# Altium footprint library Misc PTH.PcbLib: 31 footprints (part 2 of 2)
Each footprint in its own frame and in the unit in brackets; x right, y up, seen from the top. Pads: shape width x height; smd on the part's side, far side on the other; paste and mask are expansions set on the pad; w line width, h text height; cw(c..) or ccw(c..) is an arc to the next point about the centre after c.
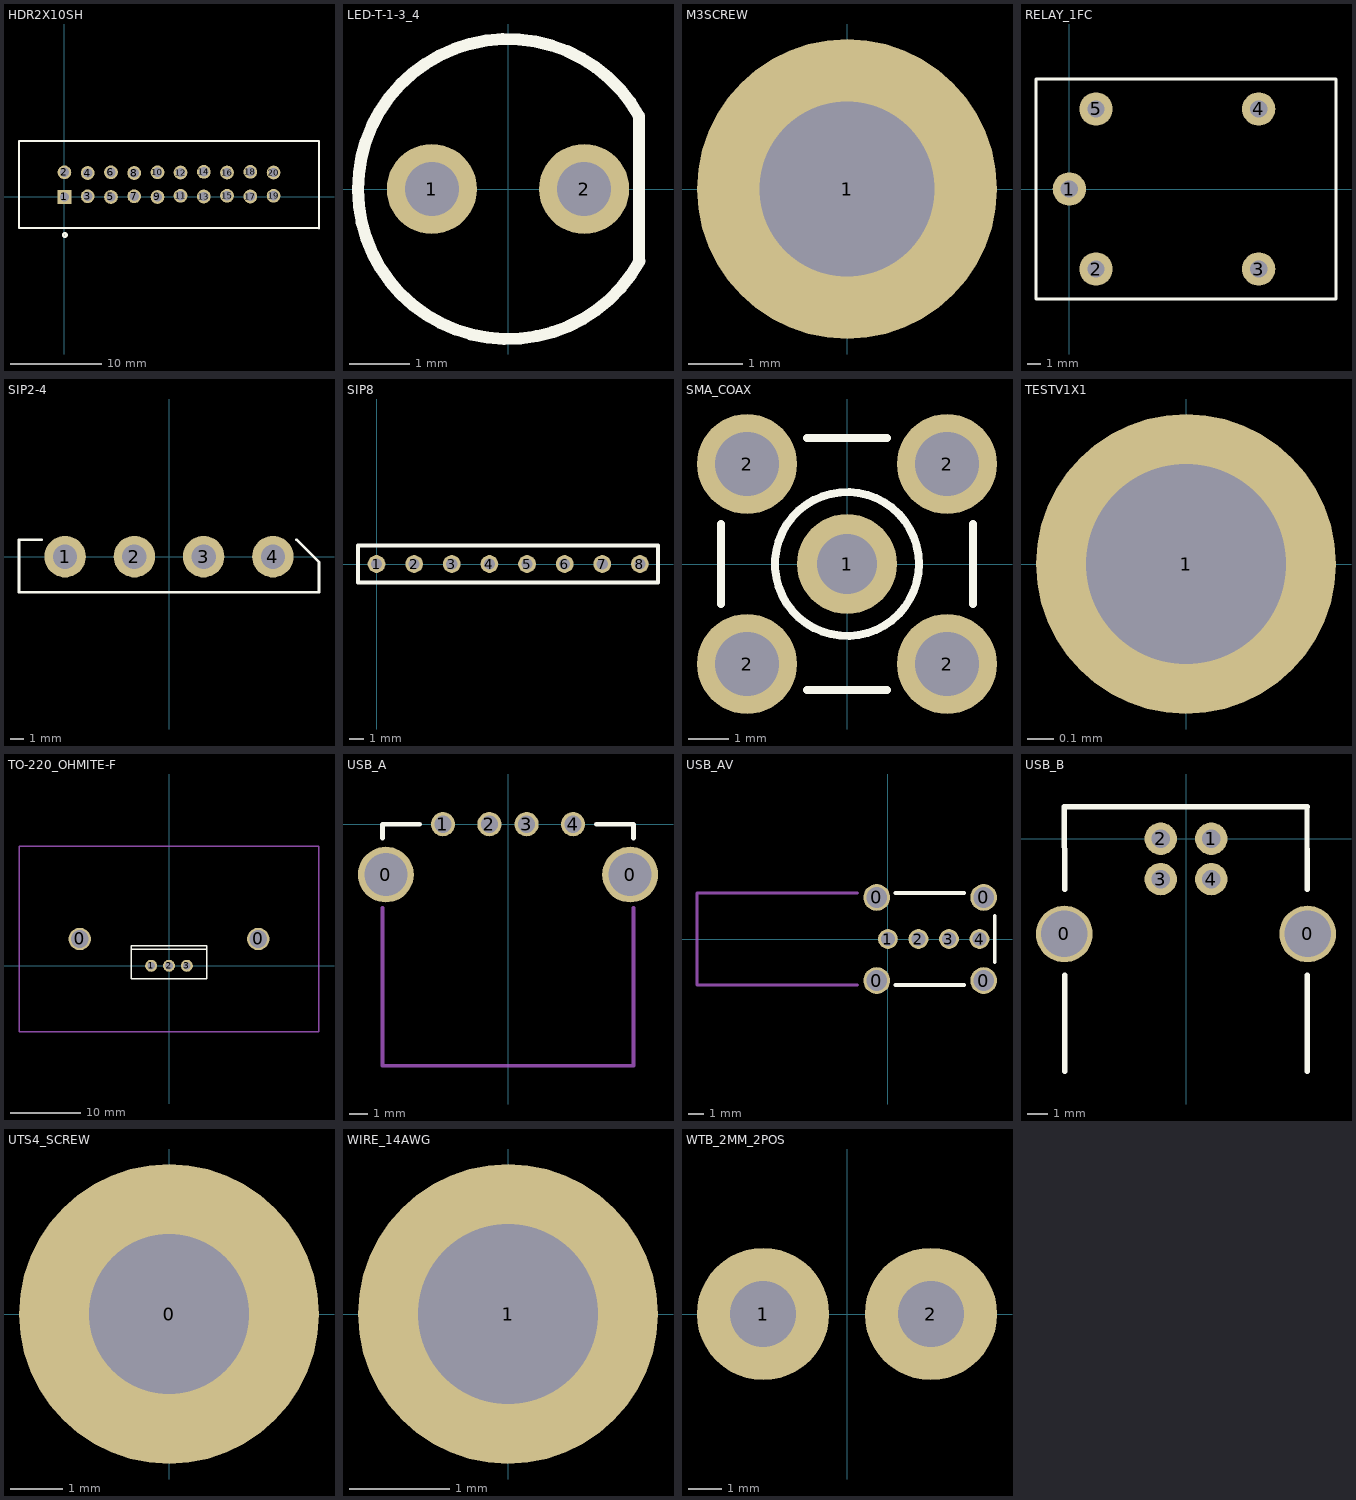
[diagram p1: the footprints below, top view; thin cyan lines are the x and y axes]

## HDR2X10SH [mm] "Connector; Header; 10x2 Position"
pads (20):
  rect 1.5x1.5 hole 1.016: 1(0,0)
  round 1.5 hole 1.016: 2(0,2.694) 3(2.54,0.077) 4(2.54,2.617) 5(5.08,0) 6(5.08,2.694) 7(7.62,0.077) 8(7.62,2.617) 9(10.16,0) 10(10.16,2.694) 11(12.68,0.13) 12(12.68,2.67) 13(15.22,0.053) 14(15.22,2.747) 15(17.76,0.13) 16(17.76,2.67) 17(20.3,0.053) 18(20.3,2.747) 19(22.84,0.13) 20(22.84,2.67)
Top Overlay:
  circle w0.254: c0.04,-4.153 r0.2
  lines w0.2: 27.8,-3.427 27.8,6.073 ; 27.8,-3.403 -4.96,-3.403 -4.96,6.097 27.8,6.097

## LED-T-1-3_4 [mm] "LED 5mm T-1 3/4"
height 8.6
pads (2):
  round 1.5 hole 0.9 mask+0: 1(-1.27,0) 2(1.27,0)
Top Overlay:
  lines w0.2: 2.185,-1.188 2.185,1.214 ccw(c0,0) 2.195,-1.197
3D body: height 8.6, standoff -1, extent -2.95,-2.949 2.5,2.949

## M3SCREW [mm]
pads (1):
  round 5.5 hole 3.2: 1(0,0)

## RELAY_1FC [mm] "Relay SPDT 1 Form C"
pads (5):
  round 2.5 hole 1.3: 1(0,0) 2(2,-6) 3(14.2,-6) 4(14.2,6) 5(2,6)
Top Overlay:
  lines w0.254: -2.5,-8.25 -2.5,8.25 20,8.25 20,-8.25 -2.5,-8.25
3D body: height 18.5, standoff 0, extent -2.5,-8.25 20,8.25

## SIP2-4 [mil]
pads (4):
  round 120 hole 70: 1(-300,0) 2(-100,0) 3(100,0) 4(300,0)
Top Overlay:
  lines w7.87: -368.11,49.21 -433.07,49.21 -433.07,-102.36 433.07,-102.36 433.07,-15.75 368.11,49.21
3D body: height 807.09, standoff 78.74, extent -433.07,-102.36 433.07,49.21

## SIP8 [mm] "Single in-line package"
height 5
pads (8):
  round 1.2 hole 0.75: 1(0,0) 2(2.54,0) 3(5.08,0) 4(7.62,0) 5(10.16,0) 6(12.7,0) 7(15.24,0) 8(17.78,0)
Top Overlay:
  lines w0.254: -1.25,-1.25 19,-1.25 19,1.25 -1.25,1.25 -1.25,-1.25
3D body: height 5, standoff 0, extent -1.25,-1.25 19,1.25

## SMA_COAX [mm] "Connector; SMA Straight"
height 9.5
pads (5):
  round 2.5 hole 1.5: 1(0,0)
  round 2.5 hole 1.6: 2(-2.5,-2.5) 2(-2.5,2.5) 2(2.5,-2.5) 2(2.5,2.5)
Top Overlay:
  circle w0.2: c0,0 r1.8
  lines w0.2: -3.15,-1 -3.15,1 ; -1,-3.15 1,-3.15 ; -1,3.15 1,3.15 ; 3.15,-1 3.15,1
Mechanical 1:
  circle w0.025: c0,0 r0.2
  circle w0.025: c0,0 r1.05
  circle w0.025: c0,0 r1.8

## TESTV1X1 [mil]
pads (1):
  round 45 hole 30 paste-200: 1(0,0)
Courtyard:
  lines w5: -10,0 10,0 ; 0,-10 0,10

## TO-220_OHMITE-F [mm] "TO, Thru-Hole, Vertical, Heatsink Mounted; 3 In-Line Leads; Pitch 2.54 mm"
height 0.635
pads (5):
  round 3.175 hole 2.54: 0(-12.7,3.81) 0(12.7,3.81)
  round 1.7 hole 1.1: 1(-2.54,0) 2(0,0) 3(2.54,0)
Top Overlay:
  lines w0.2: -5.35,2.35 5.35,2.35 ; -5.35,-1.85 5.35,-1.85 5.35,2.85 -5.35,2.85 -5.35,-1.85
Courtyard:
  lines w0.2: -21.336,-9.398 21.336,-9.398 21.336,17.018 -21.336,17.018 -21.336,-9.398
3D body: height 63.5, standoff 0, extent -20.828,-8.89 20.828,16.51

## USB_A [mm]
pads (6):
  round 3 hole 2.3: 0(-6.57,-2.71) 0(6.57,-2.71)
  round 1.3 hole 0.92: 1(-3.5,0) 2(-1,0) 3(1,0) 4(3.5,0)
Top Overlay:
  lines w0.254: -6.75,-0.75 -6.75,0 -4.75,0 ; 4.75,0 6.75,0 6.75,-0.75
Assembly:
  lines w0.2: -6.75,-4.5 -6.75,-13 6.75,-13 6.75,-4.5
3D body: height 7.74, standoff -2.74, extent -7.25,-13 7.25,1

## USB_AV [mm]
pads (8):
  round 1.75 hole 1.35: 0(-0.73,-2.72) 0(-0.73,2.72) 0(6.27,-2.72) 0(6.27,2.72)
  round 1.3 hole 0.92: 1(0,0) 2(2,0) 3(4,0) 4(6,0)
Top Overlay:
  lines w0.254: 0.5,-3 5,-3 ; 0.5,3 5,3 ; 7,-1.5 7,1.5
Mechanical 1:
  lines w0.2: -2,-3 -12.5,-3 -12.5,3 -2,3
3D body: height 14.65, standoff -3.16, extent -12.525,-3.545 7.175,3.575

## USB_B [mm]
pads (6):
  round 2.8 hole 2.3: 0(-6.02,-4.71) 0(6.02,-4.71)
  round 1.6 hole 0.92: 1(1.25,0) 2(-1.25,0) 3(-1.25,-2) 4(1.25,-2)
Top Overlay:
  lines w0.254: -6.02,1.58 -6,-2.5 ; -6,-11.5 -6,-6.75 ; -6,1.58 6,1.58 ; 5.98,1.58 6,-2.5 ; 6,-11.5 6,-6.75
3D body: height 11, standoff -3.64, extent -7.299,-15.1 7.5,1.4

## UTS4_SCREW [mil]
pads (1):
  round 225 hole 120: 0(0,0)

## WIRE_14AWG [mm]
pads (1):
  round 3 hole 1.8: 1(0,0)

## WTB_2MM_2POS [mm] "Wire-to-board, 2mm hole, 2 positions"
pads (2):
  round 4 hole 2 mask+0: 1(-2.54,0) 2(2.54,0)